# Altium schematic symbol library ABM8G-25.000MHZ-18-D2Y-T.SchLib: 1 symbol
Pins are listed as number, name and electrical type; pins without a type are passive.

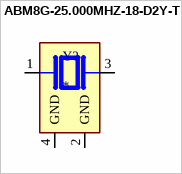
[diagram p0: symbol ABM8G-25.000MHZ-18-D2Y-T]

## ABM8G-25.000MHZ-18-D2Y-T
designator Y?
25 MHz Â±20ppm Crystal 18pF 60 Ohms 4-SMD, No Lead; MF: Abracon; MP: ABM8G-25.000MHZ-18-D2Y-T; Value: *; SnapEDA_Link: https://www.snapeda.com/parts/ABM8G-25.000MHZ-18-D2Y-T/Abracon+LLC/view-part/?ref=snap; Purchase-URL: https://pricing.snapeda.com/search/part/ABM8G-25.000MHZ-18-D2Y-T/?ref=eda; Availability: In Stock; Price: None; Package: SMD-4 Abracon; Check_prices: https://www.snapeda.com/parts/ABM8G-25.000MHZ-18-D2Y-T/Abracon+LLC/view-part/?ref=eda
footprint XTAL_ABM8G-25.000MHZ-18-D2Y-T
pins: 1, 2 GND (power), 3 2, 4 GND (power)